# Altium footprint library Optical.PcbLib: 14 footprints
Each footprint in its own frame and in the unit in brackets; x right, y up, seen from the top. Pads: shape width x height; smd on the part's side, far side on the other; paste and mask are expansions set on the pad; w line width, h text height; cw(c..) or ccw(c..) is an arc to the next point about the centre after c.
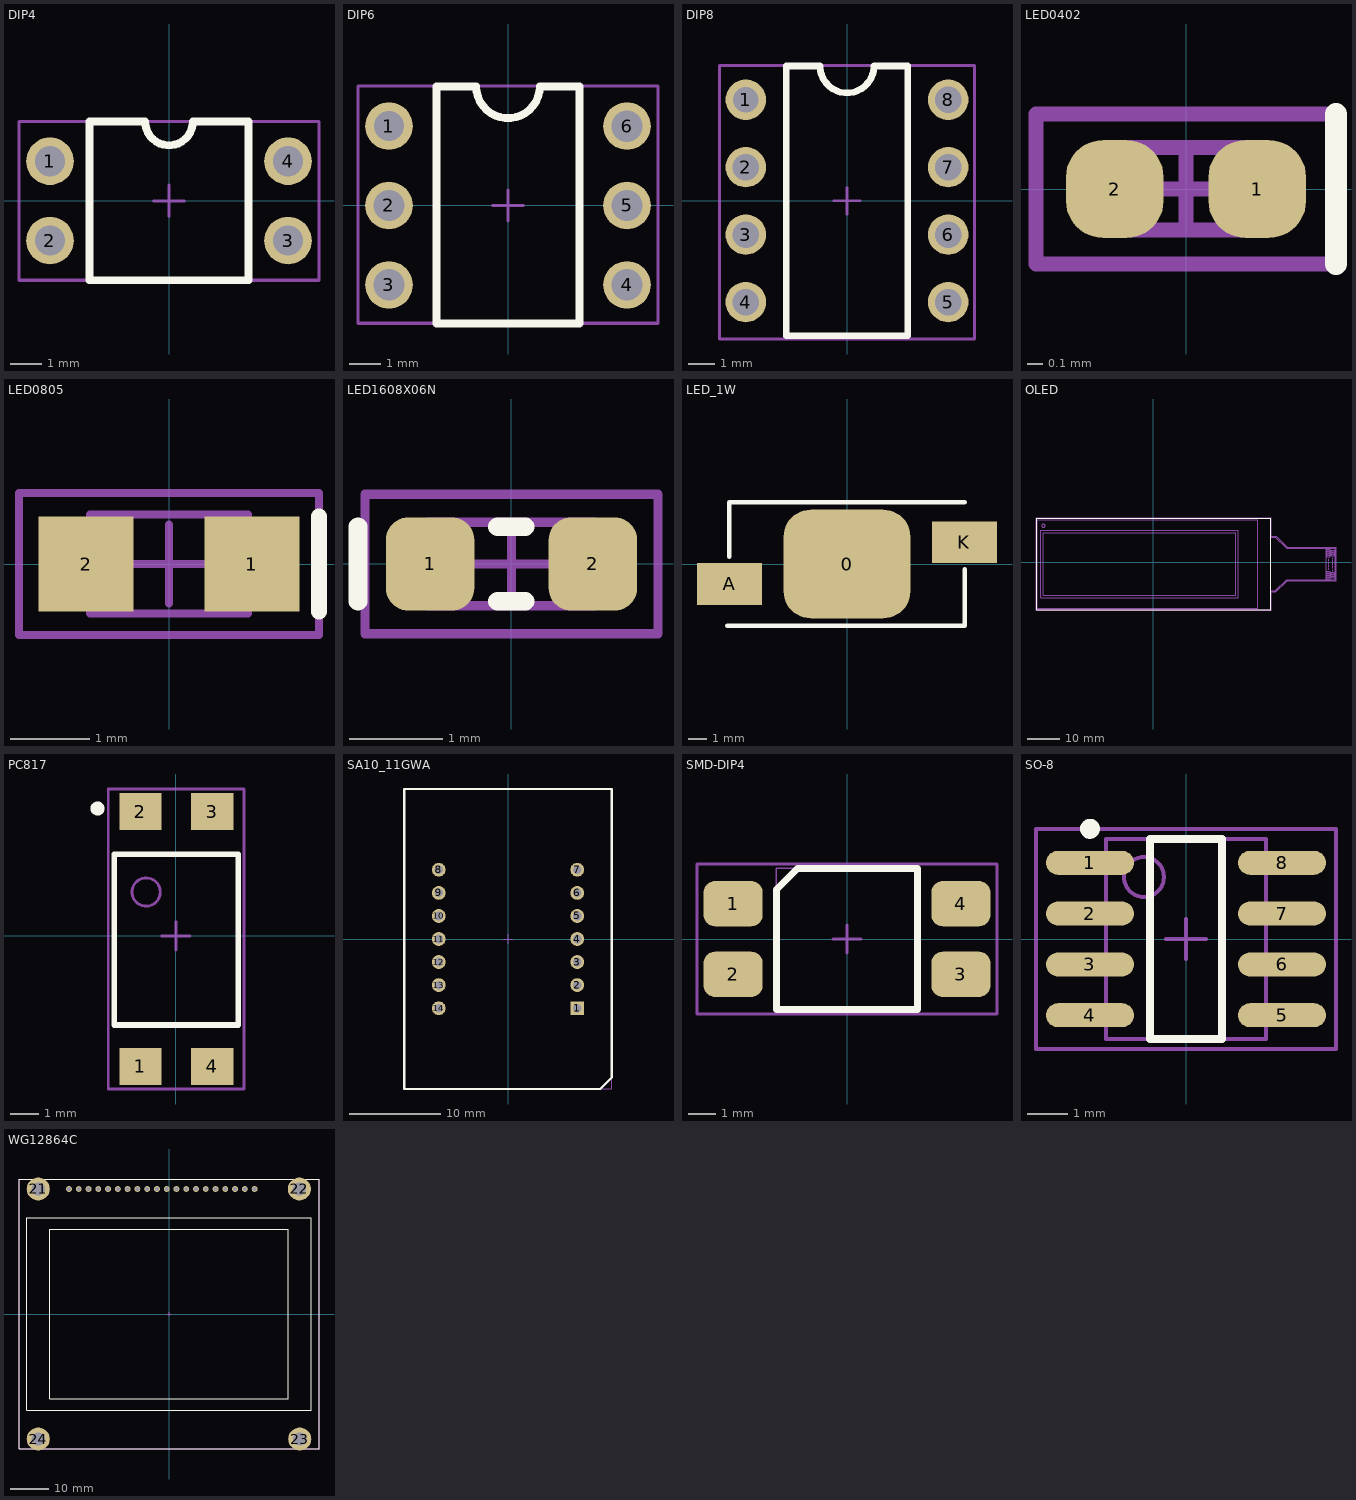
[diagram p0: the footprints below, top view; thin cyan lines are the x and y axes]

## DIP4 [mil]
pads (4):
  round 60 hole 38: 1(-150,50) 2(-150,-50) 3(150,-50) 4(150,50)
Top Overlay:
  lines w10: -100,-100 -100,100 -30,100 ccw(c0,100) 30,100 100,100 100,-100 -100,-100
Mechanical 13:
  lines w2: -100,-100 100,-100 100,100 -100,100 -100,-100
  text ".Designator" at 13.54,-76.73 h40
  text ".Designator" at 13.54,-76.73 h40
Mechanical 15:
  lines w3.94: -19.68,0 19.69,0 ; 0,-19.68 0,19.69 ; -188.98,-100 -188.98,100 188.98,100 188.98,-100 -188.98,-100
3D body: height 169.69, standoff -129.13, extent -157.48,-111.81 157.48,106.3

## DIP6 [mil]
pads (6):
  round 60 / inner rect 60x60 / far side round 60 hole 38: 1(-150,100)
  round 60 hole 39.37: 2(-150,0) 3(-150,-100) 4(150,-100) 5(150,0) 6(150,100)
Top Overlay:
  lines w10: -90,-148.43 90,-148.43 90,150 40,150 cw(c0,150) -40,150 -90,150 -90,-148.43
Mechanical 13:
  lines w2: -93.7,-148.43 -93.7,150.98 90.55,150.98 90.55,-148.43 -93.7,-148.43
  text ".Designator" at 39.37,-90.55 h40
Mechanical 15:
  lines w3.94: -19.68,0 19.69,0 ; 0,-19.68 0,19.69 ; -188.98,-148.43 188.98,-148.43 188.98,150.79 -188.98,150.79 -188.98,-148.43
3D body: height 39.37, standoff 0, extent -93.7,-148.43 90.45,151.18

## DIP8 [mil]
pads (8):
  round 60 / inner rect 60x60 / far side round 60 hole 38: 1(-150,150)
  round 60 hole 39.37: 2(-150,50) 3(-150,-50) 4(-150,-150) 5(150,-150) 6(150,-50) 7(150,50) 8(150,150)
Top Overlay:
  lines w10: -90,-200 -90,200 -40,200 ccw(c0,200) 40,200 90,200 90,-200 -90,-200
Mechanical 13:
  lines w2: -93.7,-204.72 90.55,-204.72 90.55,200.98 -93.7,200.98 -93.7,-204.72
  text ".Designator" at 13.54,-76.73 h40
Mechanical 15:
  lines w3.94: -19.68,0 19.69,0 ; 0,-19.68 0,19.69 ; -188.98,-204.72 -188.98,200.79 188.98,200.79 188.98,-204.72 -188.98,-204.72
3D body: height 163.43, standoff -126.57, extent -160.71,-195 169.29,195

## LED0402 [mm] "Chip Resistor, 2-Leads, Body 1.0x0.5mm, IPC High Density"
height 0.35
pads (2):
  rrect75% 0.65x0.65 smd mask+0.07: 1(0.475,0) 2(-0.475,0)
Top Overlay:
  lines w0.15: 1,-0.5 1,0.5
Mechanical 1:
  rectangle: 0.3,-0.3 0.525,0.275
Mechanical 13:
  lines w0.1: -0.525,-0.275 0.525,-0.275 0.525,0.275 -0.525,0.275 -0.525,-0.275
  text ".Designator" at -1,0.5 h0.5
Mechanical 15:
  lines w0.1: -0.275,0 0.275,0 ; 0,-0.275 0,0.275 ; -1,-0.5 1,-0.5 1,0.5 -1,0.5 -1,-0.5
3D body: height 0.45, standoff 0, extent -0.505,-0.25 0.505,0.25

## LED0805 [mm] "Molded Diode, 2-Leads, Body 2.0x1.3mm, IPC Medium Density"
height 0.8
pads (2):
  rect 1.2x1.2 smd: 1(1.05,0) 2(-1.05,0)
Top Overlay:
  lines w0.2: 1.9,-0.6 1.9,0.6
Mechanical 13:
  rectangle: 0.731,-0.625 1,0.625
  lines w0.1: -1,-0.625 -1,0.625 1,0.625 1,-0.625 -1,-0.625
  text ".Designator" at -2.149,0.856 h1.02
Mechanical 15:
  lines w0.1: -0.5,0 0.5,0 ; 0,-0.5 0,0.5 ; -1.9,-0.9 -1.9,0.9 1.9,0.9 1.9,-0.9 -1.9,-0.9
3D body: height 0.8, standoff 0, extent -1,-0.625 1,0.625

## LED1608X06N [mm] "SMD LED, Body 1.6x0.8mm, IPC Medium Density"
height 0.6
pads (2):
  rrect50% 0.95x1 smd: 1(-0.875,0) 2(0.875,0)
Top Overlay:
  lines w0.2: -1.65,-0.4 -1.65,0.4 ; -0.15,-0.4 0.15,-0.4 ; -0.15,0.4 0.15,0.4
Mechanical 13:
  lines w0.1: -0.9,-0.45 -0.9,0.45 0.9,0.45 0.9,-0.45 -0.9,-0.45
  text ".Designator" at -1.877,0.792 h0.5
Mechanical 15:
  lines w0.1: -0.45,0 0.45,0 ; 0,-0.45 0,0.45 ; -1.575,-0.75 -1.575,0.75 1.575,0.75 1.575,-0.75 -1.575,-0.75
3D body: height 0.68, standoff 0, extent -0.805,-0.355 0.845,0.37

## LED board Rev1.0 [mil]
height 68.9
3D body: height 23.62, standoff -171.35, extent -1549.21,-397.64 1635.83,397.64

## LED_1W [mm]
pads (3):
  rrect50% 7x6 smd: 0(0,0)
  rect 3.6x2.3 smd: A(-6.477,-1.1) K(6.477,1.2)
Top Overlay:
  lines w0.254: -6.6,-3.4 6.5,-3.4 6.5,-0.3 ; -6.5,0.4 -6.5,3.4 6.5,3.4

## OLED [mil] "SOIC, 8-Leads, Body 5,0x4,0mm (max), Pitch 1,27mm, IPC Medium Density"
height 68.9
Top Overlay:
  lines w3.94: -1417.32,-578.74 -1417.32,531.5 1425.2,531.5 1425.2,-578.74 -1417.32,-578.74
Mechanical 13:
  circle w3.94: c-1334.65,440.94 r19.68
  lines w3.94: 2102.36,-212.6 2102.36,165.35 ; 2129.92,-90.55 2129.92,-66.93 ; 2129.92,-55.12 2129.92,-31.5 ; 2129.92,-19.68 2129.92,3.94 ; 2129.92,15.75 2129.92,39.37 ; 2181.1,-114.17 2181.1,-90.55 ; 2181.1,-74.8 2181.1,-51.18 ; 2181.1,-39.37 2181.1,-15.75 ; 2181.1,-3.94 2181.1,19.68 ; 2181.1,31.5 2181.1,55.12 ; 1484.25,-350.39 1425.2,-350.39 1425.2,-578.74 -1417.32,-578.74 -1417.32,531.5 1425.2,531.5 1425.2,303.15 1484.25,303.15 ; 1484.25,-350.39 1484.25,-350.39 ; 1484.25,-350.39 1622.05,-212.6 2212.6,-212.6 2212.6,165.35 1622.05,165.35 1484.25,303.15 ; 1484.25,303.15 1484.25,303.15 ; -1409.45,-559.06 -1409.45,511.81 1267.72,511.81 1267.72,-559.06 -1409.45,-559.06 ; -1366.14,-433.07 1031.5,-433.07 1031.5,385.83 -1366.14,385.83 -1366.14,-433.07 ; 2110.24,-200.79 2110.24,-185.04 2153.54,-185.04 2153.54,-200.79 2110.24,-200.79 ; 2110.24,-177.17 2110.24,-161.42 2153.54,-161.42 2153.54,-177.17 2110.24,-177.17 ; 2110.24,-153.54 2110.24,-137.8 2153.54,-137.8 2153.54,-153.54 2110.24,-153.54 ; 2110.24,-129.92 2153.54,-129.92 2153.54,-114.17 2110.24,-114.17 2110.24,-129.92 ; 2110.24,66.93 2153.54,66.93 2153.54,82.68 2110.24,82.68 2110.24,66.93 ; 2110.24,90.55 2153.54,90.55 2153.54,106.3 2110.24,106.3 2110.24,90.55 ; 2110.24,114.17 2153.54,114.17 2153.54,129.92 2110.24,129.92 2110.24,114.17 ; 2110.24,137.8 2110.24,153.54 2153.54,153.54 2153.54,137.8 2110.24,137.8 ; 2161.42,-188.98 2161.42,-173.23 2204.72,-173.23 2204.72,-188.98 2161.42,-188.98 ; 2161.42,-165.35 2161.42,-149.61 2204.72,-149.61 2204.72,-165.35 2161.42,-165.35 ; 2161.42,-141.73 2161.42,-125.98 2204.72,-125.98 2204.72,-141.73 2161.42,-141.73 ; 2161.42,78.74 2204.72,78.74 2204.72,94.49 2161.42,94.49 2161.42,78.74 ; 2161.42,102.36 2204.72,102.36 2204.72,118.11 2161.42,118.11 2161.42,102.36 ; 2161.42,125.98 2204.72,125.98 2204.72,141.73 2161.42,141.73 2161.42,125.98
  lines w7.87: -1334.65,-401.57 -1334.65,354.33 1000,354.33 1000,-401.57 -1334.65,-401.57
  text ".Designator" at -1267.72,452.76 h19.68
Mechanical 15:
  lines w3.94: -1425.2,531.5 -1425.2,-586.61 1433.07,-586.61 1433.07,-362.2 1488.19,-362.2 1625.98,-224.41 1795.28,-224.41 2220.47,-224.41 2220.47,-220.47 2220.47,177.17 1625.98,177.17 1492.13,311.02 1433.07,311.02 1433.07,539.37 -1425.2,539.37 -1425.2,531.5 ; -1425.2,531.5 -1425.2,531.5
3D body: height 7.87, standoff 0, extent 2102.36,-212.6 2212.6,165.35
3D body: height 3.94, standoff 0, extent 1425.2,-350.39 2212.6,303.15
3D body: height 15.75, standoff 0, extent -1417.32,-578.74 1425.2,531.5
3D body: height 55.12, standoff 0, extent -1334.65,-401.57 1000,354.33

## PC817 [mm] "SOIC, 8-Leads, Body 5,0x4,0mm (max), Pitch 1,27mm, IPC Medium Density"
height 1.75
pads (4):
  rect 1.5x1.3 smd: 1(-1.25,-4.61) 2(-1.25,4.39) 3(1.29,4.39) 4(1.29,-4.61)
Top Overlay:
  circle w0.25: c-2.77,4.5 r0.125
  lines w0.2: -2.18,-3.15 2.21,-3.15 2.21,2.88 -2.18,2.88 -2.18,-3.15
Mechanical 13:
  circle w0.1: c-1.05,1.55 r0.5
  lines w0.1: -2.16,-3.12 2.21,-3.12 2.21,2.84 -2.16,2.84 -2.16,-3.12
  text ".Designator" at 0.3,-1.6 h0.5
Mechanical 15:
  lines w0.1: -0.5,0 0.5,0 ; 0,-0.5 0,0.5 ; -2.39,-5.41 -2.39,5.19 2.41,5.19 2.41,-5.41 -2.39,-5.41
3D body: height 3.51, standoff -0.25, extent -2.285,-5.19 2.313,4.97

## SA10_11GWA [mil]
pads (14):
  rect 60x60 hole 38: 1(300,-300)
  round 60 hole 38: 2(300,-200) 3(300,-100) 4(300,0) 5(300,100) 6(300,200) 7(300,300) 8(-300,300) 9(-300,200) 10(-300,100) 11(-300,0) 12(-300,-100) 13(-300,-200) 14(-300,-300)
Top Overlay:
  lines w10: -450,-650 400,-650 450,-600 450,650 -450,650 -450,-650
Mechanical 13:
  text ".Designator" at -80.67,-1.73 h40
Mechanical 15:
  lines w3.94: -19.68,0 19.69,0 ; 0,-19.68 0,19.69 ; -448.82,-649.61 448.82,-649.61 448.82,649.61 -448.82,649.61 -448.82,-649.61
3D body: height 334.65, standoff -157.48, extent -440.16,-644.49 445.67,650.79

## SMD-DIP4 [mil]
pads (4):
  rrect50% 84x64 smd: 1(-161.42,50) 2(-161.42,-50) 3(161.42,-50) 4(161.42,50)
Top Overlay:
  lines w10: -100,-100 100,-100 100,100 -70,100 -100,70 -100,-100
Mechanical 13:
  lines w2: -100,-100 -100,100 100,100 100,-100 -100,-100
  text ".Designator" at 13.54,-76.73 h40
  text ".Designator" at 13.54,-76.73 h40
Mechanical 15:
  lines w3.94: -19.68,0 19.69,0 ; 0,-19.68 0,19.69 ; -212.6,-106.3 212.6,-106.3 212.6,106.3 -212.6,106.3 -212.6,-106.3
3D body: height 151.57, standoff 1.28, extent -194.49,-87.8 194.49,92.52

## SO-8 [mm] "SOIC, 8-Leads, Body 5,0x4,0mm (max), Pitch 1,27mm, IPC Medium Density"
height 1.75
pads (8):
  oval 2.2x0.6 smd: 1(-2.4,1.905) 2(-2.4,0.635) 3(-2.4,-0.635) 4(-2.4,-1.905) 5(2.4,-1.905) 6(2.4,-0.635) 7(2.4,0.635) 8(2.4,1.905)
Top Overlay:
  circle w0.25: c-2.4,2.755 r0.125
  lines w0.2: -0.9,-2.5 0.9,-2.5 0.9,2.5 -0.9,2.5 -0.9,-2.5
Mechanical 13:
  circle w0.1: c-1.05,1.55 r0.5
  lines w0.1: -2,-2.5 2,-2.5 2,2.5 -2,2.5 -2,-2.5
  text ".Designator" at 0.3,-1.6 h0.5
Mechanical 15:
  lines w0.1: -0.5,0 0.5,0 ; 0,-0.5 0,0.5 ; -3.75,-2.75 3.75,-2.75 3.75,2.75 -3.75,2.75 -3.75,-2.75
3D body: height 1.85, standoff 0, extent -3.1,-2.5 3.1,2.5
3D body: height 1.75, standoff 0.25, extent -2,-2.5 2,2.5

## WG12864C [mm]
pads (24):
  round 1.524 hole 1: 1(-26,32.5) 2(-23.46,32.5) 3(-20.92,32.5) 4(-18.38,32.5) 5(-15.84,32.5) 6(-13.3,32.5) 7(-10.76,32.5) 8(-8.22,32.5) 9(-5.68,32.5) 10(-3.14,32.5) 11(-0.6,32.5) 12(1.94,32.5) 13(4.48,32.5) 14(7.02,32.5) 15(9.56,32.5) 16(12.1,32.5) 17(14.64,32.5) 18(17.18,32.5) 19(19.72,32.5) 20(22.26,32.5)
  round 6 hole 3.5: 21(-34,32.5) 22(33.9,32.5) 23(34,-32.5) 24(-34,-32.5)
Top Overlay:
  lines w0.254: -39,-35 39,-35 39,35 -39,35 -39,-35 ; -37,-25 -37,25 37,25 37,-25 -37,-25 ; -31,-22 31,-22 31,22 -31,22 -31,-22
Mechanical 13:
  lines w0.051: -39,-35 -39,35 39,35 39,-35 -39,-35
  text ".Designator" at -2,2 h1.02
Mechanical 15:
  lines w0.1: -0.5,0 0.5,0 ; 0,-0.5 0,0.5 ; -39,-35 39,-35 39,35 -39,35 -39,-35
3D body: height 10, standoff 0, extent -39,-35 39,35